# EAGLE library part 61001413321 (library Wuerth_Elektronik_eiCan_Pin_&_Socked_Headers_v1.3)
WR-PHD 2.54mm SMT Socket Header, 14 Pins
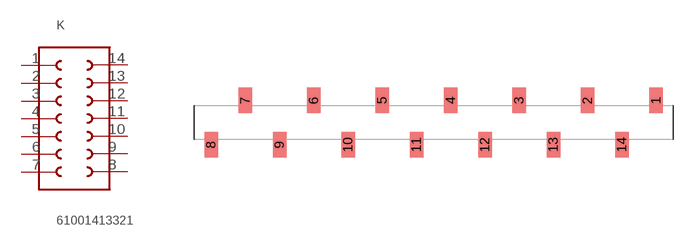
[diagram p244: symbol with the pads of 61001413321; footprint 61001413321]

Designator prefix K

## 61001413321  [61001413321]
1  1  pas
2  2  pas
3  3  pas
4  4  pas
5  5  pas
6  6  pas
7  7  pas
8  8  pas
9  9  pas
10  10  pas
11  11  pas
12  12  pas
13  13  pas
14  14  pas

## Footprint 61001413321 (pad centres in mm)
WR-PHD 2.54mm SMT Socket Header, 14 Pins
smd 1 x 1.91: 1 15.24,1.645; 2 10.16,1.645; 3 5.08,1.645; 4 0,1.645; 5 -5.08,1.645; 6 -10.16,1.645; 7 -15.24,1.645; 8 -17.78,-1.645; 9 -12.7,-1.645; 10 -7.62,-1.645; 11 -2.54,-1.645; 12 2.54,-1.645; 13 7.62,-1.645; 14 12.7,-1.645